# Altium schematic symbol library Schematics.SchLib: 1 symbol
Pins are listed as number, name and electrical type; pins without a type are passive.

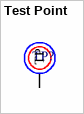
[diagram p0: symbol Test Point]

## Test Point
designator TP?  (value not drawn)
Test Point, variable footprint
footprint ROUND_SMD_D0.5_MM
footprint ROUND_SMD_D1.0_MM
footprint ROUND_TH_D0.6-d0.3_MM
footprint ROUND_TH_D2.0-d1.0_MM
footprint ROUND_TH_D1.0-d0.5_MM
pins: 1 TP